# Altium schematic symbol library TPS3702_Breakout.SchLib: 3 symbols
Pins are listed as number, name and electrical type; pins without a type are passive.

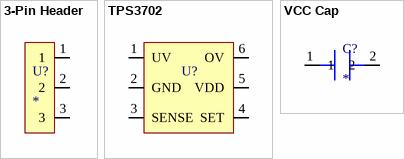
[diagram p0: symbols 3-Pin Header to VCC Cap]

## 3-Pin Header
designator U?
standard 0.1 inch socket for headers
footprint 3-Pin Header
pins: 1, 2, 3

## TPS3702
designator U?
voltage watchdog ic
footprint TPS3702
pins: 1 UV, 2 GND, 3 SENSE, 4 SET, 5 VDD, 6 OV

## VCC Cap
designator C?
Noise Reducing Cap
footprint VCC Cap
pins: 1, 2